# EAGLE library part AS-ITM-00128 (library tinycircuits)
IC MCU 8BIT 2.4GHZ 256K VQFN
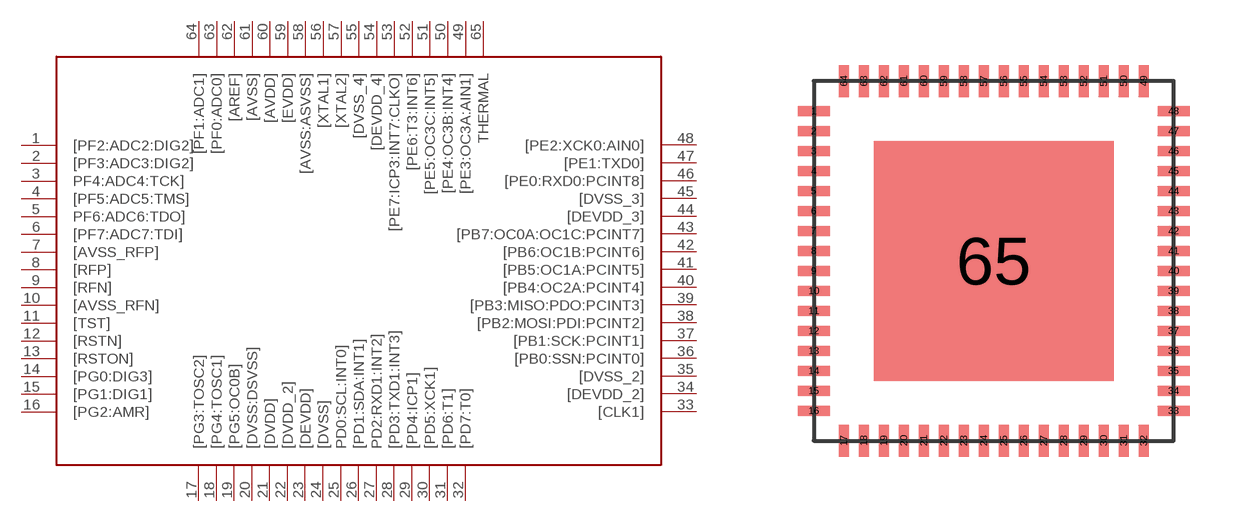
[diagram p53: symbol with the pads of PI; footprint PI]

Designator prefix -

## AS-ITM-00128  [PI]
1  [PF2:ADC2:DIG2]
2  [PF3:ADC3:DIG2]
3  PF4:ADC4:TCK]
4  [PF5:ADC5:TMS]
5  PF6:ADC6:TDO]
6  [PF7:ADC7:TDI]
7  [AVSS_RFP]
8  [RFP]
9  [RFN]
10  [AVSS_RFN]
11  [TST]
12  [RSTN]
13  [RSTON]
14  [PG0:DIG3]
15  [PG1:DIG1]
16  [PG2:AMR]
17  [PG3:TOSC2]
18  [PG4:TOSC1]
19  [PG5:OC0B]
20  [DVSS:DSVSS]
21  [DVDD]
22  [DVDD_2]
23  [DEVDD]
24  [DVSS]
25  PD0:SCL:INT0]
26  [PD1:SDA:INT1]
27  PD2:RXD1:INT2]
28  [PD3:TXD1:INT3]
29  [PD4:ICP1]
30  [PD5:XCK1]
31  [PD6:T1]
32  [PD7:T0]
33  [CLK1]
34  [DEVDD_2]
35  [DVSS_2]
36  [PB0:SSN:PCINT0]
37  [PB1:SCK:PCINT1]
38  [PB2:MOSI:PDI:PCINT2]
39  [PB3:MISO:PDO:PCINT3]
40  [PB4:OC2A:PCINT4]
41  [PB5:OC1A:PCINT5]
42  [PB6:OC1B:PCINT6]
43  [PB7:OC0A:OC1C:PCINT7]
44  [DEVDD_3]
45  [DVSS_3]
46  [PE0:RXD0:PCINT8]
47  [PE1:TXD0]
48  [PE2:XCK0:AIN0]
49  [PE3:OC3A:AIN1]
50  [PE4:OC3B:INT4]
51  [PE5:OC3C:INT5]
52  [PE6:T3:INT6]
53  [PE7:ICP3:INT7:CLKO]
54  [DEVDD_4]
55  [DVSS_4]
56  [XTAL1]
57  [XTAL2]
58  [AVSS:ASVSS]
59  [EVDD]
60  [AVDD]
61  [AVSS]
62  [AREF]
63  [PF0:ADC0]
64  [PF1:ADC1]
65  THERMAL

## Footprint PI (pad centres in mm)
smd 0.8 x 0.25: 1 0,8.25; 2 0,7.75; 3 0,7.25; 4 0,6.75; 5 0,6.25; 6 0,5.75; 7 0,5.25; 8 0,4.75; 9 0,4.25; 10 0,3.75; 11 0,3.25; 12 0,2.75; 13 0,2.25; 14 0,1.75; 15 0,1.25; 16 0,0.75; 33 9,0.75; 34 9,1.25; 35 9,1.75; 36 9,2.25; 37 9,2.75; 38 9,3.25; 39 9,3.75; 40 9,4.25; 41 9,4.75; 42 9,5.25; 43 9,5.75; 44 9,6.25; 45 9,6.75; 46 9,7.25; 47 9,7.75; 48 9,8.25
smd 0.25 x 0.8: 17 0.75,0; 18 1.25,0; 19 1.75,0; 20 2.25,0; 21 2.75,0; 22 3.25,0; 23 3.75,0; 24 4.25,0; 25 4.75,0; 26 5.25,0; 27 5.75,0; 28 6.25,0; 29 6.75,0; 30 7.25,0; 31 7.75,0; 32 8.25,0; 49 8.25,9; 50 7.75,9; 51 7.25,9; 52 6.75,9; 53 6.25,9; 54 5.75,9; 55 5.25,9; 56 4.75,9; 57 4.25,9; 58 3.75,9; 59 3.25,9; 60 2.75,9; 61 2.25,9; 62 1.75,9; 63 1.25,9; 64 0.75,9
smd 6 x 6: 65 4.5,4.5